# Altium footprint library miscellaneous.PcbLib: 26 footprints (part 1 of 2)
Each footprint in its own frame and in the unit in brackets; x right, y up, seen from the top. Pads: shape width x height; smd on the part's side, far side on the other; paste and mask are expansions set on the pad; w line width, h text height; cw(c..) or ccw(c..) is an arc to the next point about the centre after c.
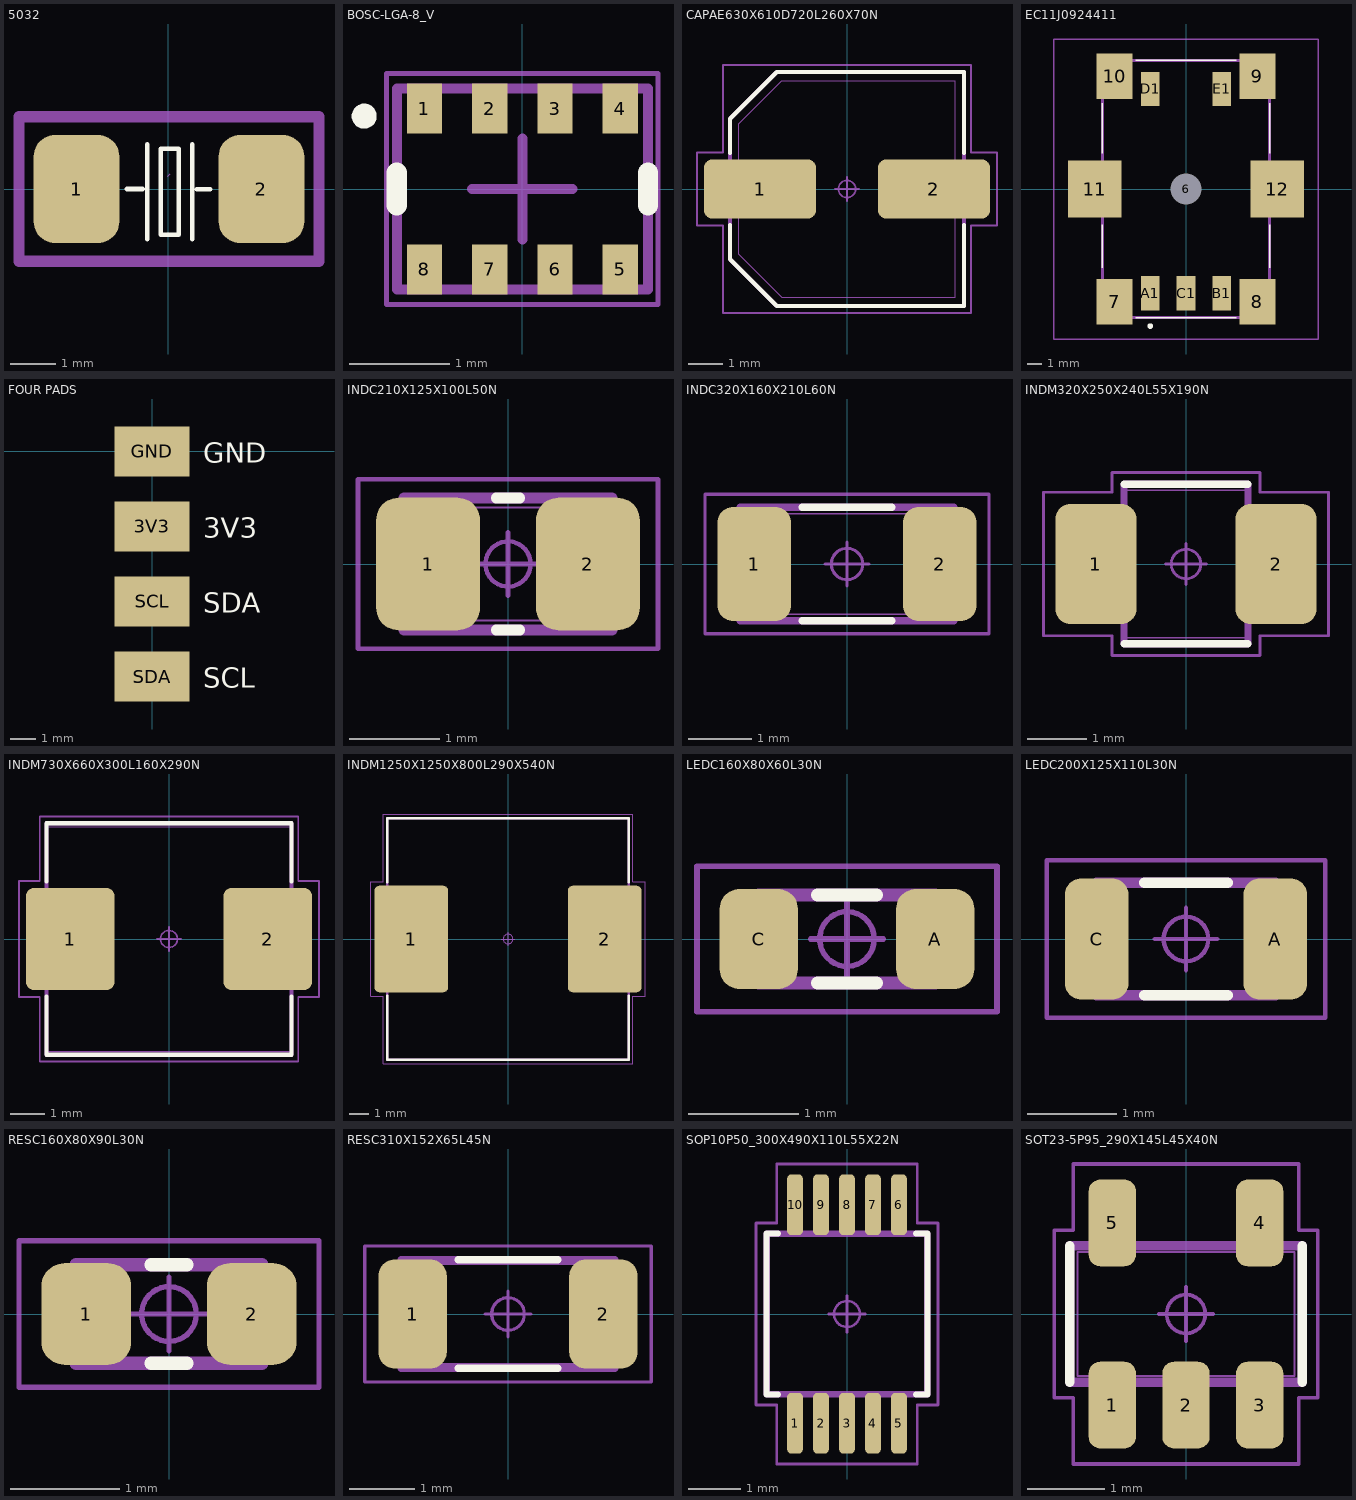
[diagram p0: the footprints below, top view; thin cyan lines are the x and y axes]

## 5032 [mm]
pads (2):
  rrect50% 1.9x2.4 smd: 1(-2.032,0) 2(2.068,0)
Top Overlay:
  lines w0.1: -0.922,0 -0.566,0 ; -0.465,-1.109 -0.465,0.991 ; 0.535,-1.109 0.535,0.991 ; 0.635,-0.009 0.935,-0.009 ; -0.165,-1.009 -0.165,0.89 0.235,0.89 0.235,-1.009 -0.165,-1.009
Mechanical 15:
  lines w0.003: -0.007,0.286 0.043,0.337
  lines w0.254: -3.307,-1.6 -3.307,-0.7 -3.307,0.7 -3.307,1.6 3.343,1.6 3.343,0.7 3.343,-0.7 3.343,-1.6 -3.307,-1.6

## BOSC-LGA-8_V [mm]
pads (8):
  rect 0.35x0.5 smd: 1(-0.975,0.8) 2(-0.325,0.8) 3(0.325,0.8) 4(0.975,0.8) 5(0.975,-0.8) 6(0.325,-0.8) 7(-0.325,-0.8) 8(-0.975,-0.8)
Top Overlay:
  circle w0.125: c-1.574,0.725 r0.062
  lines w0.2: -1.25,-0.163 -1.25,0.163 ; 1.25,-0.163 1.25,0.163
Mechanical 13:
  lines w0.1: -1.25,-1 1.25,-1 1.25,1 -1.25,1 -1.25,-1
Mechanical 15:
  lines w0.05: -1.35,-1.15 -1.35,1.15 1.35,1.15 1.35,-1.15 -1.35,-1.15
  lines w0.1: -0.5,0 0.5,0 ; 0,-0.5 0,0.5
3D body "BMP280--3DModel-STEP-1.STEP": height 1, standoff 0, extent -1.25,-1 1.25,1

## CAPAE630X610D720L260X70N [mm] "Capacitor, Aluminum Electrolytic; 6.30 mm L X 6.30 mm W X 6.10 mm H body"
height 6.1
pads (2):
  rrect29% 3.26x1.72 smd: 1(-2.525,0) 2(2.525,0)
Top Overlay:
  lines w0.12: -3.4,-1.04 -3.4,-2.04 -2.04,-3.4 3.4,-3.4 3.4,-1.04 ; -3.4,1.04 -3.4,2.04 -2.04,3.4 3.4,3.4 3.4,1.04
Mechanical 11:
  lines w0.12: -3.4,-2.04 -3.4,2.04 -2.04,3.4 3.4,3.4 3.4,-3.4 -2.04,-3.4 -3.4,-2.04
Mechanical 12:
  lines w0.025: -3.6,-0.35 -3.6,0.35 -1,0.35 -1,-0.35 -3.6,-0.35 ; -3.15,-1.89 -3.15,1.89 -1.89,3.15 3.15,3.15 3.15,-3.15 -1.89,-3.15 -3.15,-1.89 ; 1,-0.35 3.6,-0.35 3.6,0.35 1,0.35 1,-0.35
Mechanical 15:
  circle w0.05: c0,0 r0.25
  lines w0.05: -0.35,0 0.35,0 ; 0,-0.35 0,0.35 ; -4.355,-1.06 -3.6,-1.06 -3.6,-3.6 3.6,-3.6 3.6,-1.06 4.355,-1.06 4.355,1.06 3.6,1.06 3.6,3.6 -3.6,3.6 -3.6,1.06 -4.355,1.06 -4.355,-1.06
3D body: height 0.25, standoff 0, extent 0,0 0.254,0.254
3D body "CAPAE630X610D720L260X70.STEP": height 6.1, standoff 0, extent -3.6,-3.15 3.6,3.15

## EC11J0924411 [mm] "Rotary encoder ALPS"
pads (12):
  round 1.075 hole 2.15 unplated: 6(0,0)
  rect 2.5x3.2 smd: 7(-5,-7.9) 8(5,-7.9) 9(5,7.9) 10(-5,7.9)
  rect 3.75x4 smd: 11(-6.375,0) 12(6.375,0)
  rect 1.3x2.4 smd: A1(-2.5,-7.3) B1(2.5,-7.3) C1(0,-7.3) D1(-2.5,7) E1(2.5,7)
Top Overlay:
  lines w0.1: -5.85,-5.5 -5.85,-2.5 ; -5.85,2.5 -5.85,6 ; -3.5,-9 3,-9 3.5,-9 ; -3.5,9 3.5,9 ; 5.85,-5.5 5.85,-2.5 ; 5.85,2.5 5.85,6
  lines w0.2: -2.6,-9.6 ccw(c-2.5,-9.6) -2.4,-9.6 ccw(c-2.5,-9.6) -2.6,-9.6
Mechanical 13:
  lines w0.2: -5.85,-9 5.85,-9 5.85,9 -5.85,9 -5.85,-9
Mechanical 15:
  lines w0.1: -9.25,-10.5 9.25,-10.5 9.25,10.5 -9.25,10.5 -9.25,-10.5
3D body "EC11J0924411.stp": height 24.6, standoff -1.7, extent -7.875,-9.25 7.875,9.25

## FOUR PADS [mm]
pads (4):
  rect 3x2 smd: 3V3(0,-3) GND(0,0) SCL(0,-6) SDA(0,-9)
Top Overlay:
  text "GND" at 2.05,-0.45 h0.8
  text "3V3" at 2.05,-3.45 h0.8
  text "SDA" at 2.05,-6.45 h0.8
  text "SCL" at 2.05,-9.45 h0.8

## INDC210X125X100L50N [mm] "Inductor, Chip; 0805; 2.10 mm L X 1.25 mm W X 1.00 mm H body"
height 1
pads (2):
  rrect43% 1.15x1.47 smd: 1(-0.885,0) 2(0.885,0)
Top Overlay:
  lines w0.12: -0.13,-0.73 0.13,-0.73 ; -0.13,0.73 0.13,0.73
Mechanical 11:
  lines w0.12: -1.15,-0.73 1.15,-0.73 1.15,0.73 -1.15,0.73 -1.15,-0.73
Mechanical 12:
  lines w0.025: -1.05,-0.625 1.05,-0.625 ; -1.05,-0.625 -1.05,0.625 ; -1.05,-0.625 -1.05,0.625 ; -1.05,-0.625 -0.55,-0.625 -0.55,0.625 -1.05,0.625 ; -1.05,0.625 1.05,0.625 ; 1.05,-0.625 1.05,0.625 ; 1.05,-0.625 0.55,-0.625 0.55,0.625 1.05,0.625 ; 1.05,-0.625 1.05,0.625
Mechanical 15:
  circle w0.05: c0,0 r0.25
  lines w0.05: -0.35,0 0.35,0 ; 0,-0.35 0,0.35 ; -1.66,-0.94 1.66,-0.94 1.66,0.94 -1.66,0.94 -1.66,-0.94
3D body: height 0.25, standoff 0, extent 0,0 0.254,0.254
3D body "INDC210X125X100L50.STEP": height 1, standoff 0, extent -1.05,-0.625 1.05,0.625

## INDC320X160X210L60N [mm] "Inductor, Chip; 3.20 mm L X 1.60 mm W X 2.10 mm H body"
height 2.1
pads (2):
  rrect43% 1.17x1.82 smd: 1(-1.475,0) 2(1.475,0)
Top Overlay:
  lines w0.12: -0.71,-0.9 0.71,-0.9 ; -0.71,0.9 0.71,0.9
Mechanical 11:
  lines w0.12: -1.7,-0.9 1.7,-0.9 1.7,0.9 -1.7,0.9 -1.7,-0.9
Mechanical 12:
  lines w0.025: -1.6,-0.8 1.6,-0.8 ; -1.6,-0.8 -1.6,0.8 ; -1.6,-0.8 -1.6,0.8 ; -1.6,-0.8 -1,-0.8 -1,0.8 -1.6,0.8 ; -1.6,0.8 1.6,0.8 ; 1.6,-0.8 1.6,0.8 ; 1.6,-0.8 1,-0.8 1,0.8 1.6,0.8 ; 1.6,-0.8 1.6,0.8
Mechanical 15:
  circle w0.05: c0,0 r0.25
  lines w0.05: -0.35,0 0.35,0 ; 0,-0.35 0,0.35 ; -2.26,-1.11 2.26,-1.11 2.26,1.11 -2.26,1.11 -2.26,-1.11
3D body: height 0.25, standoff 0, extent 0,0 0.254,0.254
3D body "INDC320X160X210L60.STEP": height 2.1, standoff 0, extent -1.6,-0.8 1.6,0.8

## INDM320X250X240L55X190N [mm] "Inductor, Molded Body; 2.10 mm L X 2.50 mm W X 2.40 mm H body"
height 2.4
pads (2):
  rrect36% 1.37x2.03 smd: 1(-1.525,0) 2(1.525,0)
Top Overlay:
  lines w0.12: -1.05,-1.35 1.05,-1.35 ; -1.05,1.35 1.05,1.35
Mechanical 11:
  lines w0.12: -1.05,-1.35 1.05,-1.35 1.05,1.35 -1.05,1.35 -1.05,-1.35
Mechanical 12:
  lines w0.025: -1.6,-0.95 -1.6,0.95 -1.05,0.95 -1.05,-0.95 -1.6,-0.95 ; -1.05,-1.25 1.05,-1.25 1.05,1.25 -1.05,1.25 -1.05,-1.25 ; 1.05,-0.95 1.6,-0.95 1.6,0.95 1.05,0.95 1.05,-0.95
Mechanical 15:
  circle w0.05: c0,0 r0.25
  lines w0.05: -0.35,0 0.35,0 ; 0,-0.35 0,0.35 ; -2.41,-1.215 -1.25,-1.215 -1.25,-1.55 1.25,-1.55 1.25,-1.215 2.41,-1.215 2.41,1.215 1.25,1.215 1.25,1.55 -1.25,1.55 -1.25,1.215 -2.41,1.215 -2.41,-1.215
3D body: height 0.25, standoff 0, extent 0,0 0.254,0.254
3D body "INDM320X250X240L55X190.STEP": height 2.4, standoff 0, extent -1.6,-1.25 1.6,1.25

## INDM730X660X300L160X290N [mm] "Inductor, Molded Body; 7.20 mm L X 6.60 mm W X 3.00 mm H body"
height 3
pads (2):
  rrect19% 2.61x3.01 smd: 1(-2.9,0) 2(2.9,0)
Top Overlay:
  lines w0.12: -3.6,-1.685 -3.6,-3.4 3.6,-3.4 3.6,-1.685 ; -3.6,1.685 -3.6,3.4 3.6,3.4 3.6,1.685
Mechanical 11:
  lines w0.12: -3.6,-3.4 -3.6,3.4 3.6,3.4 3.6,-3.4 -3.6,-3.4
Mechanical 12:
  lines w0.025: -3.65,-1.45 -2.05,-1.45 -2.05,1.45 -3.65,1.45 -3.65,-1.45 ; -3.6,-3.3 -3.6,3.3 3.6,3.3 3.6,-3.3 -3.6,-3.3 ; 2.05,-1.45 2.05,1.45 3.65,1.45 3.65,-1.45 2.05,-1.45
Mechanical 15:
  circle w0.05: c0,0 r0.25
  lines w0.05: -0.35,0 0.35,0 ; 0,-0.35 0,0.35 ; -4.405,-1.705 -4.405,1.705 -3.8,1.705 -3.8,3.6 3.8,3.6 3.8,1.705 4.405,1.705 4.405,-1.705 3.8,-1.705 3.8,-3.6 -3.8,-3.6 -3.8,-1.705 -4.405,-1.705
3D body: height 0.25, standoff 0, extent 0,0 0.254,0.254
3D body "INDM730X660X300L160X290.STEP": height 3, standoff 0, extent -3.65,-3.3 3.65,3.3

## INDM1250X1250X800L290X540N [mm] "Inductor, Molded Body; 12.50 mm L X 12.50 mm W X 8.00 mm H body"
height 8
pads (2):
  rrect13% 3.81x5.51 smd: 1(-5,0) 2(5,0)
Top Overlay:
  lines w0.12: -6.25,-2.935 -6.25,-6.25 6.25,-6.25 6.25,-2.935 ; -6.25,2.935 -6.25,6.25 6.25,6.25 6.25,2.935
Mechanical 11:
  lines w0.12: -6.25,-6.25 6.25,-6.25 6.25,6.25 -6.25,6.25 -6.25,-6.25
Mechanical 12:
  lines w0.025: -6.25,-6.25 6.25,-6.25 6.25,6.25 -6.25,6.25 -6.25,-6.25 ; -6.25,-2.7 -6.25,2.7 -3.35,2.7 -3.35,-2.7 -6.25,-2.7 ; 3.35,-2.7 6.25,-2.7 6.25,2.7 3.35,2.7 3.35,-2.7
Mechanical 15:
  circle w0.05: c0,0 r0.25
  lines w0.05: -0.35,0 0.35,0 ; 0,-0.35 0,0.35 ; -7.105,-2.955 -6.45,-2.955 -6.45,-6.45 6.45,-6.45 6.45,-2.955 7.105,-2.955 7.105,2.955 6.45,2.955 6.45,6.45 -6.45,6.45 -6.45,2.955 -7.105,2.955 -7.105,-2.955
3D body: height 0.25, standoff 0, extent 0,0 0.254,0.254
3D body "INDM1250X1250X800L290X540.STEP": height 8, standoff 0, extent -6.25,-6.25 6.25,6.25

## LEDC160X80X60L30N [mm] "LED, Chip; 0603; 1.60 mm L X 0.80 mm W X 0.60 mm H body, green"
height 0.6
pads (2):
  rrect51% 0.71x0.91 smd: A(0.8,0) C(-0.8,0)
Top Overlay:
  lines w0.12: -0.265,-0.4 0.265,-0.4 ; -0.265,0.4 0.265,0.4
Mechanical 11:
  lines w0.12: -0.8,-0.4 0.8,-0.4 0.8,0.4 -0.8,0.4 -0.8,-0.4
Mechanical 12:
  lines w0.025: -0.8,-0.4 0.8,-0.4 ; -0.8,-0.4 -0.8,0.4 ; -0.8,-0.4 -0.8,0.4 ; -0.8,-0.4 -0.5,-0.4 -0.5,0.4 -0.8,0.4 ; -0.8,0.4 0.8,0.4 ; 0.8,-0.4 0.8,0.4 ; 0.8,-0.4 0.5,-0.4 0.5,0.4 0.8,0.4 ; 0.8,-0.4 0.8,0.4
Mechanical 15:
  circle w0.05: c0,0 r0.248
  lines w0.05: -0.33,0 0.33,0 ; 0,-0.33 0,0.33 ; -1.36,-0.66 1.36,-0.66 1.36,0.66 -1.36,0.66 -1.36,-0.66
3D body: height 0.25, standoff 0, extent 0,0 0.254,0.254
3D body "LEDC160X80X60L30.STEP": height 0.95, standoff 0, extent -0.8,-0.4 0.8,0.4

## LEDC200X125X110L30N [mm] "LED, Chip; 2.00 mm L X 1.25 mm W X 1.10 mm H body"
height 1.1
pads (2):
  rrect51% 0.71x1.36 smd: A(1,0) C(-1,0)
Top Overlay:
  lines w0.12: -0.465,-0.63 0.465,-0.63 ; -0.465,0.63 0.465,0.63
Mechanical 11:
  lines w0.12: -1,-0.63 -1,0.63 1,0.63 1,-0.63 -1,-0.63
Mechanical 12:
  lines w0.025: -1,-0.625 -0.7,-0.625 -0.7,0.625 -1,0.625 ; -1,-0.625 -1,0.625 ; -1,-0.625 -1,0.625 ; -1,-0.625 1,-0.625 ; -1,0.625 1,0.625 ; 1,-0.625 1,0.625 ; 1,-0.625 0.7,-0.625 0.7,0.625 1,0.625 ; 1,-0.625 1,0.625
Mechanical 15:
  circle w0.05: c0,0 r0.25
  lines w0.05: -0.35,0 0.35,0 ; 0,-0.35 0,0.35 ; -1.56,-0.88 -1.56,0.88 1.56,0.88 1.56,-0.88 -1.56,-0.88
3D body: height 0.25, standoff 0, extent 0,0 0.254,0.254
3D body "LEDC200X125X110L30.STEP": height 1.45, standoff 0, extent -1,-0.625 1,0.625

## RESC160X80X90L30N [mm] "Resistor, Chip; 1.60 mm L X 0.80 mm W X 0.90 mm H body"
height 0.9
pads (2):
  rrect51% 0.82x0.93 smd: 1(-0.755,0) 2(0.755,0)
Top Overlay:
  lines w0.12: -0.165,-0.45 0.165,-0.45 ; -0.165,0.45 0.165,0.45
Mechanical 11:
  lines w0.12: -0.85,-0.45 0.85,-0.45 0.85,0.45 -0.85,0.45 -0.85,-0.45
Mechanical 12:
  lines w0.025: -0.8,-0.4 0.8,-0.4 ; -0.8,-0.4 -0.8,0.4 ; -0.8,-0.4 -0.8,0.4 ; -0.8,-0.4 -0.5,-0.4 -0.5,0.4 -0.8,0.4 ; -0.8,0.4 0.8,0.4 ; 0.8,-0.4 0.8,0.4 ; 0.8,-0.4 0.5,-0.4 0.5,0.4 0.8,0.4 ; 0.8,-0.4 0.8,0.4
Mechanical 15:
  circle w0.05: c0,0 r0.25
  lines w0.05: -0.335,0 0.335,0 ; 0,-0.335 0,0.335 ; -1.37,-0.67 1.37,-0.67 1.37,0.67 -1.37,0.67 -1.37,-0.67
3D body: height 0.25, standoff 0, extent 0,0 0.254,0.254
3D body "RESC160X80X90L30.STEP": height 0.9, standoff 0, extent -0.8,-0.4 0.8,0.4

## RESC310X152X65L45N [mm] "Resistor, 1206; Chip; 3.10 mm L X 1.525 mm W X 0.65 mm H body"
height 0.65
pads (2):
  rrect48% 1.05x1.67 smd: 1(-1.46,0) 2(1.46,0)
Top Overlay:
  lines w0.12: -0.755,-0.83 0.755,-0.83 ; -0.755,0.83 0.755,0.83
Mechanical 11:
  lines w0.12: -1.63,-0.83 1.63,-0.83 1.63,0.83 -1.63,0.83 -1.63,-0.83
Mechanical 12:
  lines w0.025: -1.55,-0.763 1.55,-0.763 ; -1.55,-0.763 -1.55,0.763 ; -1.55,-0.763 -1.55,0.763 ; -1.55,-0.763 -1.1,-0.763 -1.1,0.763 -1.55,0.763 ; -1.55,0.763 1.55,0.763 ; 1.55,-0.763 1.55,0.763 ; 1.55,-0.763 1.1,-0.763 1.1,0.763 1.55,0.763 ; 1.55,-0.763 1.55,0.763
Mechanical 15:
  circle w0.05: c0,0 r0.25
  lines w0.05: -0.35,0 0.35,0 ; 0,-0.35 0,0.35 ; -2.19,-1.04 2.19,-1.04 2.19,1.04 -2.19,1.04 -2.19,-1.04
3D body: height 0.25, standoff 0, extent 0,0 0.254,0.254
3D body "RESC310X152X65L45.STEP": height 0.65, standoff 0, extent -1.55,-0.762 1.55,0.763

## SOP10P50_300X490X110L55X22N [mm] "Small Outline Pkg (SOP), 0.50 mm pitch; 10 pin, 3.00 mm L X 3.00 mm W X 1.10 mm H body"
height 1.1
pads (10):
  rrect53% 0.3x1.17 smd: 1(-1,-2.1) 2(-0.5,-2.1) 3(0,-2.1) 4(0.5,-2.1) 5(1,-2.1) 6(1,2.1) 7(0.5,2.1) 8(0,2.1) 9(-0.5,2.1) 10(-1,2.1)
Top Overlay:
  lines w0.12: -1.33,-1.55 -1.55,-1.55 -1.55,1.55 -1.33,1.55 ; 1.33,-1.55 1.55,-1.55 1.55,1.55 1.33,1.55
Mechanical 11:
  lines w0.12: -1.55,-1.55 1.55,-1.55 1.55,1.55 -1.55,1.55 -1.55,-1.55
Mechanical 12:
  lines w0.025: -1.5,-1.5 1.5,-1.5 1.5,1.5 -1.5,1.5 -1.5,-1.5 ; -1.11,-2.45 -1.11,-1.9 -0.89,-1.9 -0.89,-2.45 -1.11,-2.45 ; -1.11,1.9 -1.11,2.45 -0.89,2.45 -0.89,1.9 -1.11,1.9 ; -0.61,-2.45 -0.61,-1.9 -0.39,-1.9 -0.39,-2.45 -0.61,-2.45 ; -0.61,1.9 -0.61,2.45 -0.39,2.45 -0.39,1.9 -0.61,1.9 ; -0.11,-2.45 -0.11,-1.9 0.11,-1.9 0.11,-2.45 -0.11,-2.45 ; -0.11,1.9 -0.11,2.45 0.11,2.45 0.11,1.9 -0.11,1.9 ; 0.39,-2.45 0.39,-1.9 0.61,-1.9 0.61,-2.45 0.39,-2.45 ; 0.39,1.9 0.39,2.45 0.61,2.45 0.61,1.9 0.39,1.9 ; 0.89,-2.45 0.89,-1.9 1.11,-1.9 1.11,-2.45 0.89,-2.45 ; 0.89,1.9 0.89,2.45 1.11,2.45 1.11,1.9 0.89,1.9
Mechanical 15:
  circle w0.05: c0,0 r0.25
  lines w0.05: -0.35,0 0.35,0 ; 0,-0.35 0,0.35 ; -1.75,-1.75 -1.35,-1.75 -1.35,-2.885 1.35,-2.885 1.35,-1.75 1.75,-1.75 1.75,1.75 1.35,1.75 1.35,2.885 -1.35,2.885 -1.35,1.75 -1.75,1.75 -1.75,-1.75
3D body: height 0.25, standoff 0, extent 0,0 0.254,0.254
3D body "SOP10P50_300X490X110L55X22.STEP": height 1.1, standoff 0, extent -1.5,-2.45 1.5,2.45

## SOT23-5P95_290X145L45X40N [mm] "Small Outline Transistor (SOT23), 0.95 mm pitch; 5 pin, 2.80 mm L X 1.60 mm W X 1.45 mm H body"
height 1.45
pads (5):
  rrect49% 0.61x1.12 smd: 1(-0.95,-1.175) 2(0,-1.175) 3(0.95,-1.175) 4(0.95,1.175) 5(-0.95,1.175)
Top Overlay:
  lines w0.12: -1.5,-0.88 -1.5,0.88 ; 1.5,-0.88 1.5,0.88
Mechanical 11:
  lines w0.12: -1.5,-0.88 1.5,-0.88 1.5,0.88 -1.5,0.88 -1.5,-0.88
Mechanical 12:
  lines w0.025: -1.4,-0.8 1.4,-0.8 1.4,0.8 -1.4,0.8 -1.4,-0.8 ; -1.15,-1.45 -1.15,-1 -0.75,-1 -0.75,-1.45 -1.15,-1.45 ; -1.15,1 -1.15,1.45 -0.75,1.45 -0.75,1 -1.15,1 ; -0.2,-1.45 -0.2,-1 0.2,-1 0.2,-1.45 -0.2,-1.45 ; 0.75,-1.45 0.75,-1 1.15,-1 1.15,-1.45 0.75,-1.45 ; 0.75,1 0.75,1.45 1.15,1.45 1.15,1 0.75,1
Mechanical 15:
  circle w0.05: c0,0 r0.25
  lines w0.05: -0.35,0 0.35,0 ; 0,-0.35 0,0.35 ; -1.7,-1.08 -1.455,-1.08 -1.455,-1.935 1.455,-1.935 1.455,-1.08 1.7,-1.08 1.7,1.08 1.455,1.08 1.455,1.935 -1.455,1.935 -1.455,1.08 -1.7,1.08 -1.7,-1.08
3D body: height 0.25, standoff 0, extent 0,0 0.254,0.254
3D body "SOT23-5P95_290X145L45X40.STEP": height 1.45, standoff 0, extent -1.4,-1.45 1.4,1.45